# EAGLE library part MSP430-PROG-PORT (library fcd-msp430-prog-port)
Adapted from the Berkeley Eagle CAD Library
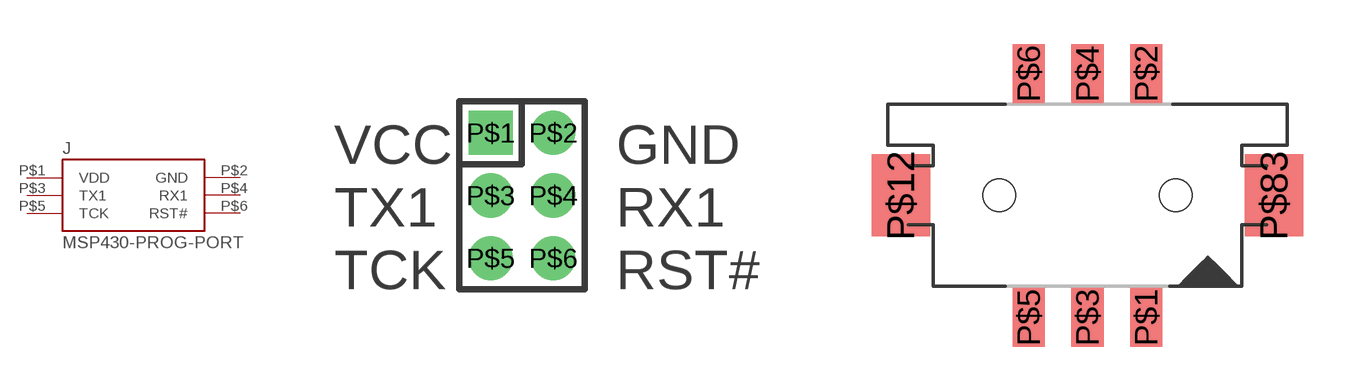
[diagram p0: symbol with the pads of DF11-6DP-2DSA(01); footprints DF11-6DP-2DSA(01), DF11G-6DP-2V(50)]

Designator prefix J

## MSP430-PROG-PORTTH  [DF11-6DP-2DSA(01)]
P$1  VDD
P$2  GND
P$3  TX1
P$4  RX1
P$5  TCK
P$6  RST#

## MSP430-PROG-PORTSMD  [DF11G-6DP-2V(50)]
P$1  GND
P$2  VDD
P$3  RX1
P$4  TX1
P$5  RST#
P$6  TCK

## Footprint DF11-6DP-2DSA(01) (pad centres in mm)
drill 0.9 square: P$1 -1,2
drill 0.9 round: P$2 1,2; P$3 -1,0; P$4 1,0; P$5 -1,-2; P$6 1,-2

## Footprint DF11G-6DP-2V(50) (pad centres in mm)
smd 1.1 x 2: P$1 2,-4.15; P$2 2,4.15; P$3 0,-4.15; P$4 0,4.15; P$5 -2,-4.15; P$6 -2,4.15
smd 2 x 2.8: P$12 -6.35,0; P$83 6.35,0
hole 1.1 at -3,0
hole 1.1 at 3,0